# Altium schematic symbol library LED Bi-color 4 leads.SchLib: 1 symbol
Pins are listed as number, name and electrical type; pins without a type are passive.

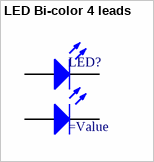
[diagram p0: symbol LED Bi-color 4 leads]

## LED Bi-color 4 leads
designator LED?
=Description
pins: 1 K, 2 K, 3 A, 4 A